# EAGLE library part SW_DIP-2 (library pie)
DIP SWITCH
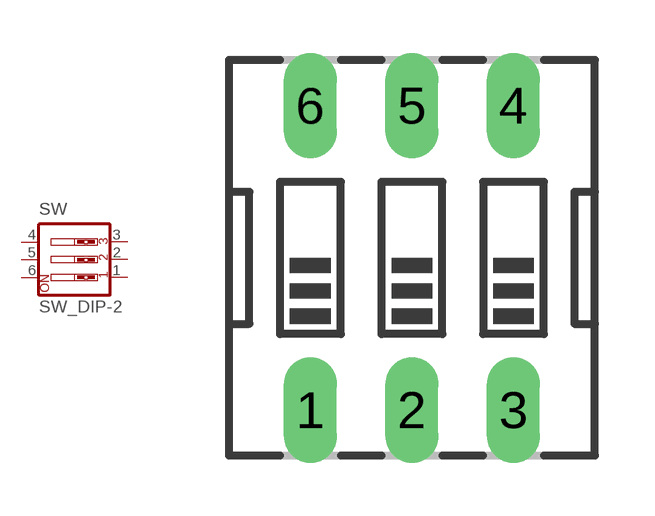
[diagram p5: symbol with the pads of DIPSWITCH-02; footprint DIPSWITCH-02]

Designator prefix SW

## SW_DIP-2  [DIPSWITCH-02]
1  1  pas
2  2  pas
3  3  pas
4  4  pas
5  5  pas
6  6  pas

## Footprint DIPSWITCH-02 (pad centres in mm)
DIP SWITCH
drill 0.813 long: 1 -1.27,-3.81; 2 1.27,-3.81; 3 3.81,-3.81; 4 3.81,3.81; 5 1.27,3.81; 6 -1.27,3.81